# Altium footprint library ROBOCAM_1.PcbLib: 116 footprints (part 3 of 8)
Each footprint in its own frame and in the unit in brackets; x right, y up, seen from the top. Pads: shape width x height; smd on the part's side, far side on the other; paste and mask are expansions set on the pad; w line width, h text height; cw(c..) or ccw(c..) is an arc to the next point about the centre after c.
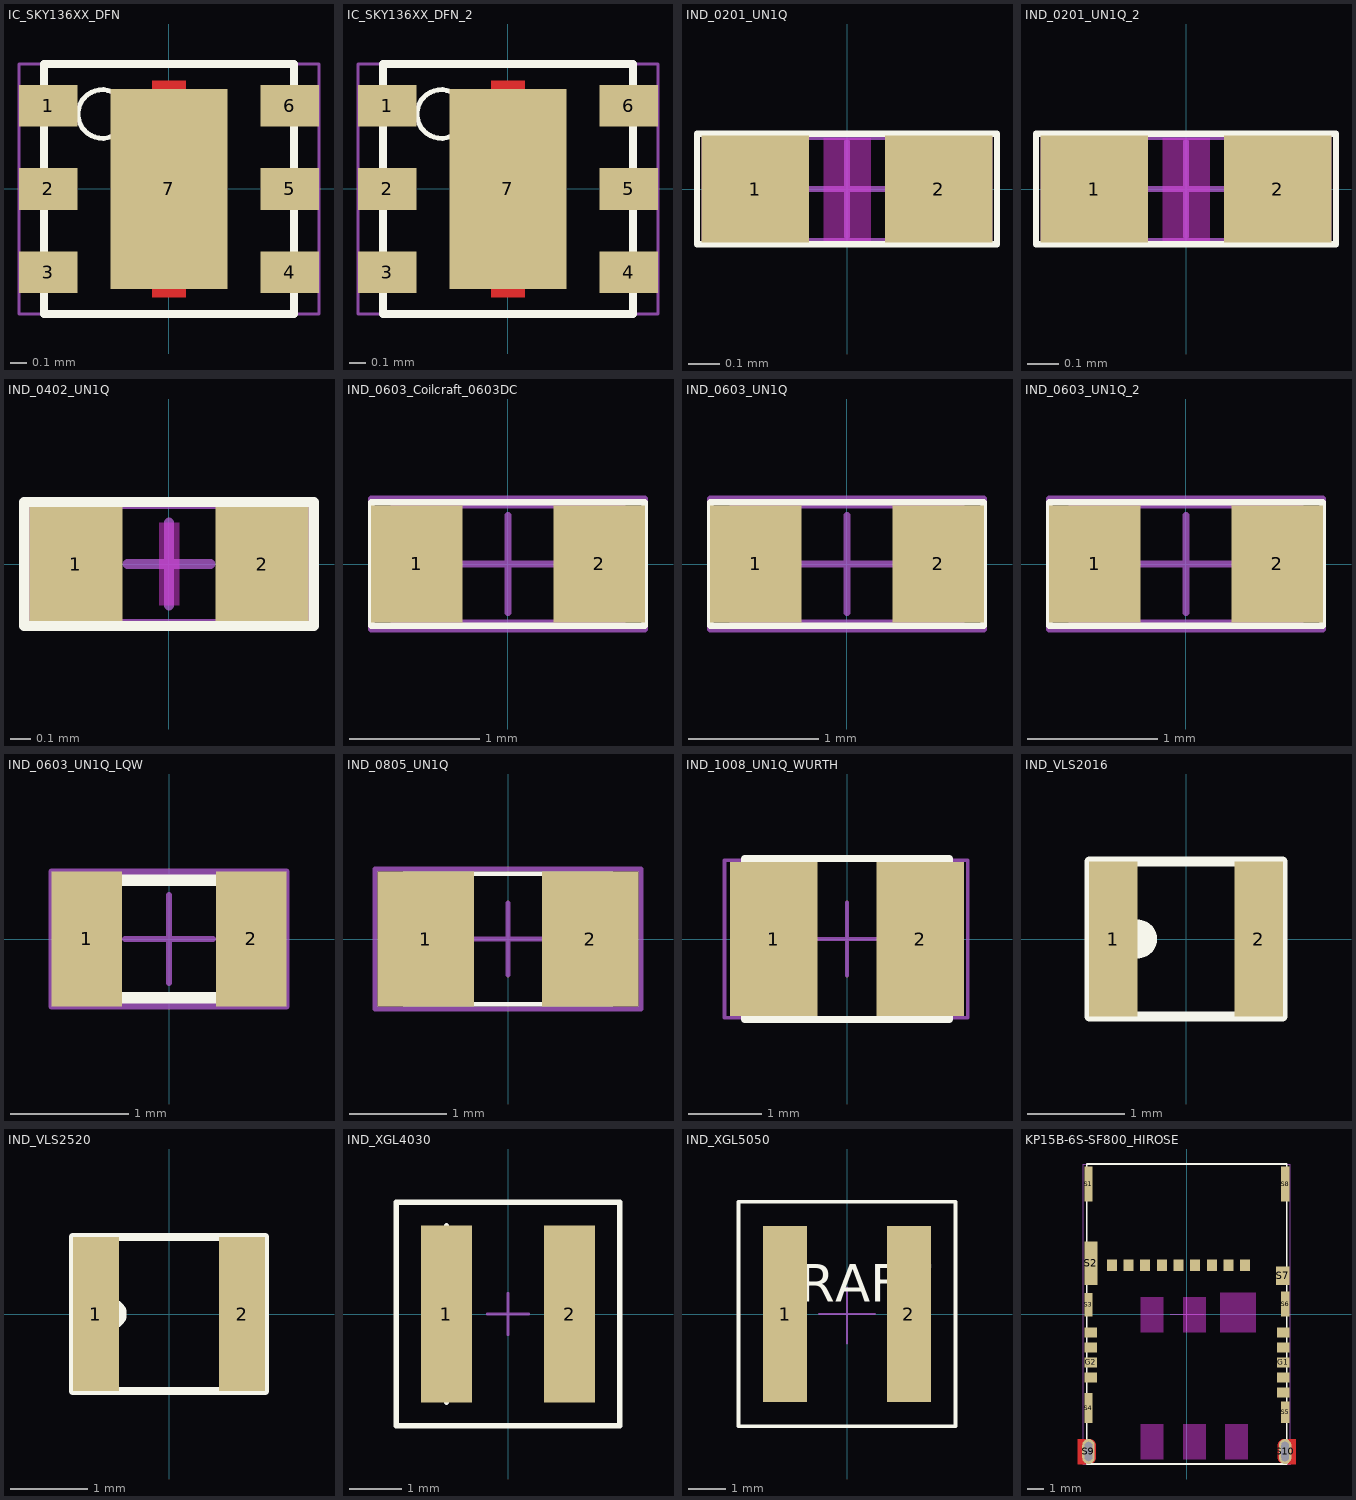
[diagram p2: the footprints below, top view; thin cyan lines are the x and y axes]

## IC_SKY136XX_DFN [mm] "Antenna SPDT Switch"
height 0.55
pads (7):
  rect 0.35x0.25 smd paste+0 mask+0.05: 1(-0.725,0.5) 2(-0.725,0) 3(-0.725,-0.5) 4(0.725,-0.5) 5(0.725,0) 6(0.725,0.5)
  rect 0.7x1.2 smd paste-0.05 mask+0.05: 7(0,0)
Top Layer:
  region: -0.1,0.65 0.1,0.65 0.1,0.6 -0.1,0.6
  region: -0.1,-0.6 0.1,-0.6 0.1,-0.65 -0.1,-0.65
Top Overlay:
  circle w0.03: c-0.4,0.45 r0.146
  lines w0.05: -0.75,-0.75 0.75,-0.75 0.75,0.75 -0.75,0.75 -0.75,-0.75
Top Solder:
  rectangle: -0.15,-0.7 0.15,0.7
Top Courtyard:
  lines w0.02: -0.9,-0.75 0.9,-0.75 0.9,0.75 -0.9,0.75 -0.9,-0.75
  lines w0.05: -0.3,0 0.3,0 ; 0,-0.3 0,0.3
Top Designator:
  text ".Designator" at -7.618,-0.508 h1.52
3D body: height 0.56, standoff 0.51, extent -0.549,0.3 -0.25,0.6
3D body: height 0.55, standoff 0, extent -0.775,-0.775 0.775,0.775

## IC_SKY136XX_DFN_2 [mm]
pads (7):
  rect 0.35x0.25 smd paste+0 mask+0.05: 1(-0.725,0.5) 2(-0.725,0) 3(-0.725,-0.5) 4(0.725,-0.5) 5(0.725,0) 6(0.725,0.5)
  rect 0.7x1.2 smd paste-0.05 mask+0.05: 7(0,0)
Top Layer:
  region: -0.1,0.65 0.1,0.65 0.1,0.6 -0.1,0.6
  region: -0.1,-0.6 0.1,-0.6 0.1,-0.65 -0.1,-0.65
Top Overlay:
  circle w0.03: c-0.4,0.45 r0.146
  lines w0.05: -0.75,-0.75 0.75,-0.75 0.75,0.75 -0.75,0.75 -0.75,-0.75
Top Solder:
  rectangle: -0.15,-0.7 0.15,0.7
Top Courtyard:
  lines w0.02: -0.9,-0.75 0.9,-0.75 0.9,0.75 -0.9,0.75 -0.9,-0.75
  lines w0.05: -0.3,0 0.3,0 ; 0,-0.3 0,0.3
Top Designator:
  text ".Designator" at 7.618,0.508 h1.52
3D body: height 0.56, standoff 0.51, extent -0.549,0.3 -0.25,0.6
3D body: height 0.55, standoff 0, extent -0.775,-0.775 0.775,0.775

## IND_0201_UN1Q [mm] "Chip Resistor, 0.6x0.3mm, IPC High Density"
height 0.3
pads (2):
  rect 0.34x0.34 smd mask+0.05: 1(-0.29,0) 2(0.29,0)
Top Layer keep-out:
  rectangle: -0.075,-0.169 0.075,0.161
Top Overlay:
  lines w0.02: -0.475,-0.175 -0.475,0.175 0.475,0.175 0.475,-0.175 -0.475,-0.175
Top Courtyard:
  lines w0.02: -0.15,0 0.15,0 ; 0,-0.15 0,0.15 ; -0.45,-0.165 -0.45,0.165 0.45,0.165 0.45,-0.165 -0.45,-0.165
Top Designator:
  text ".Designator" at -7.618,-0.508 h1.52
3D body "AIMC-0201-10NJ-T.STEP": height 0.3, standoff 0, extent -0.3,-0.15 0.3,0.15

## IND_0201_UN1Q_2 [mm]
pads (2):
  rect 0.34x0.34 smd mask+0.05: 1(-0.29,0) 2(0.29,0)
Top Layer keep-out:
  rectangle: -0.075,-0.169 0.075,0.161
Top Overlay:
  lines w0.02: -0.475,-0.175 0.475,-0.175 0.475,0.175 -0.475,0.175 -0.475,-0.175
Top Courtyard:
  lines w0.02: -0.15,0 0.15,0 ; 0,-0.15 0,0.15 ; -0.45,-0.165 0.45,-0.165 0.45,0.165 -0.45,0.165 -0.45,-0.165
Top Designator:
  text ".Designator" at -7.618,-0.508 h1.52
3D body "AIMC-0201-10NJ-T.STEP": height 0.3, standoff 0, extent -0.3,-0.15 0.3,0.15

## IND_0402_UN1Q [mm] "Chip Resistor, 1.0x0.5mm"
height 0.4
pads (2):
  rect 0.45x0.55 smd paste+0 mask+0.05: 1(-0.45,0) 2(0.45,0)
Top Layer keep-out:
  rectangle: -0.049,-0.2 0.051,0.2
Top Overlay:
  lines w0.05: -0.7,-0.3 -0.7,0.3 0.7,0.3 0.7,-0.3 -0.7,-0.3
Top Courtyard:
  lines w0.02: -0.675,-0.275 0.675,-0.275 0.675,0.275 -0.675,0.275 -0.675,-0.275
  lines w0.05: -0.2,0 0.2,0 ; 0,-0.2 0,0.2
Top Designator:
  text ".Designator" at 7.618,0.508 h1.52
3D body "AIMC-0402-3N9S-T.STEP": height 0.5, standoff 0, extent -0.5,-0.25 0.5,0.25

## IND_0603_Coilcraft_0603DC [mm] "Chip Inductor, 1.6x0.8mm"
height 0.9
pads (2):
  rect 0.7x0.9 smd mask+0.07: 1(-0.7,0) 2(0.7,0)
Top Overlay:
  lines w0.05: -1.05,-0.475 -1.05,0.475 1.05,0.475 1.05,-0.475 -1.05,-0.475
Top 3D Body:
  lines w0.1: -0.85,-0.475 -0.85,0.475 0.85,0.475 0.85,-0.475 -0.85,-0.475
Top Courtyard:
  lines w0.05: -0.375,0 0.375,0 ; 0,-0.375 0,0.375 ; -1.05,-0.5 -1.05,0.5 1.05,0.5 1.05,-0.5 -1.05,-0.5
Top Designator:
  text ".Designator" at -7.618,-0.508 h1.52
3D body "Coilcraft-0603DC.step": height 0.89, standoff 0, extent -0.81,-0.365 0.81,0.365

## IND_0603_UN1Q [mm] "Chip Inductor, 1.6x0.8mm"
height 0.8
pads (2):
  rect 0.7x0.9 smd mask+0.07: 1(-0.7,0) 2(0.7,0)
Top Overlay:
  lines w0.05: -1.05,-0.475 1.05,-0.475 1.05,0.475 -1.05,0.475 -1.05,-0.475
Top 3D Body:
  lines w0.1: -0.85,-0.475 0.85,-0.475 0.85,0.475 -0.85,0.475 -0.85,-0.475
Top Courtyard:
  lines w0.05: -0.375,0 0.375,0 ; 0,-0.375 0,0.375 ; -1.05,-0.5 1.05,-0.5 1.05,0.5 -1.05,0.5 -1.05,-0.5
Top Designator:
  text ".Designator" at 7.618,0.508 h1.52
3D body: height 0.6, standoff 0, extent -0.849,-0.474 -0.58,0.475
3D body: height 0.8, standoff 0, extent -1.05,-0.475 1.05,0.475
3D body: height 0.6, standoff 0, extent 0.581,-0.474 0.85,0.475

## IND_0603_UN1Q_2 [mm]
pads (2):
  rect 0.7x0.9 smd mask+0.07: 1(-0.7,0) 2(0.7,0)
Top Overlay:
  lines w0.05: -1.05,-0.475 1.05,-0.475 1.05,0.475 -1.05,0.475 -1.05,-0.475
Top 3D Body:
  lines w0.1: -0.85,-0.475 0.85,-0.475 0.85,0.475 -0.85,0.475 -0.85,-0.475
Top Courtyard:
  lines w0.05: -0.375,0 0.375,0 ; 0,-0.375 0,0.375 ; -1.05,-0.5 1.05,-0.5 1.05,0.5 -1.05,0.5 -1.05,-0.5
Top Designator:
  text ".Designator" at -7.618,-0.508 h1.52
3D body: height 0.6, standoff 0, extent -0.849,-0.474 -0.58,0.475
3D body: height 0.8, standoff 0, extent -1.05,-0.475 1.05,0.475
3D body: height 0.6, standoff 0, extent 0.581,-0.474 0.85,0.475

## IND_0603_UN1Q_LQW [mm] "Chip Inductor, 1.65x0.99mm (1.75x1.09 max)"
height 1
pads (2):
  rect 0.6x1.15 smd mask+0.07: 1(-0.7,0) 2(0.7,0)
Top Overlay:
  lines w0.1: -0.825,-0.5 -0.825,0.5 0.825,0.5 0.825,-0.5 -0.825,-0.5
Top 3D Body:
  lines w0.1: -0.825,-0.5 -0.825,0.5 0.825,0.5 0.825,-0.5 -0.825,-0.5
Top Courtyard:
  lines w0.05: -0.375,0 0.375,0 ; 0,-0.375 0,0.375 ; -1,-0.575 -1,0.575 1,0.575 1,-0.575 -1,-0.575
Top Designator:
  text ".Designator" at 7.618,0.508 h1.52
3D body: height 0.6, standoff 0, extent 0.581,-0.474 0.85,0.475
3D body: height 1, standoff 0, extent -0.825,-0.5 0.825,0.5
3D body: height 0.6, standoff 0, extent -0.849,-0.474 -0.58,0.475

## IND_0805_UN1Q [mm] "Chip Inductor, 2.10x1.35mm, IPC High Density"
height 1
pads (2):
  rect 1x1.4 smd paste+0 mask+0.05: 1(-0.85,0) 2(0.85,0)
Top Overlay:
  lines w0.05: -1.075,-0.675 -1.075,0.675 1.075,0.675 1.075,-0.675 -1.075,-0.675
Top Courtyard:
  lines w0.05: -0.375,0 0.375,0 ; 0,-0.375 0,0.375 ; -1.375,-0.725 -1.375,0.725 1.375,0.725 1.375,-0.725 -1.375,-0.725
Top Designator:
  text ".Designator" at 7.618,0.508 h1.52
3D body "LQM21PN1R0NGRD.STEP": height 1.01, standoff 0.01, extent -1,-0.625 1,0.625

## IND_1008_UN1Q_WURTH [mm] "Chip Inductor, 1008"
height 1.2
pads (2):
  rect 1.2x2.1 smd mask+0.05: 1(-1,0) 2(1,0)
Top Overlay:
  lines w0.1: -1.4,-1.1 -1.4,1.1 1.4,1.1 1.4,-1.1 -1.4,-1.1
Top Courtyard:
  lines w0.05: -0.5,0 0.5,0 ; 0,-0.5 0,0.5 ; -1.675,-1.075 1.65,-1.075 1.65,1.075 -1.675,1.075 -1.675,-1.075
Top Designator:
  text ".Designator" at -7.63,-0.508 h1.52
3D body "WE-LQS_252012 (rev1).stp": height 1.21, standoff 0.01, extent -1.25,-1 1.25,1

## IND_VLS2016 [mm]
height 1.2
pads (2):
  rect 0.5x1.6 smd paste+0 mask+0.05: 1(-0.75,0) 2(0.75,0)
Top Overlay:
  circle w0.2: c-0.5,0 r0.1
  lines w0.1: -1,-0.8 1,-0.8 1,0.8 -1,0.8 -1,-0.8
Top Courtyard:
  lines w0.05: -1,-0.8 -1,0.8 1,0.8 1,-0.8 -1,-0.8
Top Designator:
  text ".Designator" at 7.618,0.508 h1.52
3D body "step_temp.STEP": height 1.2, standoff 0, extent -1,-0.8 1,0.8

## IND_VLS2520 [mm]
height 1.2
pads (2):
  rect 0.6x2 smd paste+0 mask+0.05: 1(-0.95,0) 2(0.95,0)
Top Overlay:
  circle w0.2: c-0.75,0 r0.1
  lines w0.1: -1.25,-1 -1.25,1 1.25,1 1.25,-1 -1.25,-1
Top Courtyard:
  lines w0.05: -1.25,-1 1.25,-1 1.25,1 -1.25,1 -1.25,-1
Top Designator:
  text ".Designator" at -7.618,-0.508 h1.52
3D body "step_temp.STEP": height 1.2, standoff 0, extent -1.25,-1 1.25,1

## IND_XGL4030 [mm]
height 3.1
pads (2):
  rect 0.98x3.4 smd paste+0 mask+0.05: 1(-1.185,0) 2(1.185,0)
Top Overlay:
  lines w0.1: -1.185,-1.7 -1.185,1.7 ; -2.15,-2.15 2.15,-2.15 2.15,2.15 -2.15,2.15 -2.15,-2.15
Top Courtyard:
  lines w0.05: -0.4,0 0.4,0 ; 0,-0.4 0,0.4 ; -2.15,-2.15 2.15,-2.15 2.15,2.15 -2.15,2.15 -2.15,-2.15
Top Designator:
  text ".Designator" at -4.719,-0.508 h1.52
3D body "Coilcraft-XGL4030.step": height 3, standoff -0.1, extent -2.15,-2.15 2.15,2.15
3D body: height 2.11, standoff 2, extent -1.075,-1.5 -0.725,1.5

## IND_XGL5050 [mm] "XGL5050, shielded, 5.3 x 5.5 mm"
height 5.1
pads (2):
  rect 1.18x4.7 smd paste+0 mask+0.05: 1(-1.655,0) 2(1.655,0)
Top Overlay:
  circle w0.1: c-1.65,1.8 r0.5
  lines w0.1: -2.9,-3 2.9,-3 2.9,3 -2.9,3 -2.9,-3
  text "DRAFT" at -2.325,0.325 h1
Top Courtyard:
  lines w0.05: -0.75,0 0.75,0 ; 0.003,-0.791 0.003,0.709 ; -2.9,-3 -2.9,3 2.9,3 2.9,-3 -2.9,-3
Top Designator:
  text ".Designator" at -7.618,-0.508 h1.52
3D body "Coilcraft-XGL5050.step": height 4.9, standoff -0.2, extent -2.74,-2.84 2.74,2.84

## KP15B-6S-SF800_HIROSE [mm] "micro SD, nano SIM Combo Card Socket"
height 2.1
pads (28):
  rect 0.6x0.7 smd paste+0 mask+0.05: C1_1(3.5,2.93) C2_1(2.5,2.93) C3_1(1.5,2.93) C4_1(0.5,2.93) C5_1(-0.5,2.93) C6_1(-1.5,2.93) C7_1(-3.5,2.93) C8_1(-4.5,2.93) D_T_1(-2.5,2.93)
  rect 0.75x0.6 smd paste+0 mask+0.05: C1_2(5.775,-4.7) C2_2(5.775,-3.8) C3_2(-5.775,-3.8) C5_2(5.775,-2) C6_2(-5.775,-2) C7_2(-5.775,-1.1) D_T_2(5.775,-1.1) G1(5.775,-2.9) G2(-5.775,-2.9)
  rect 0.5x2.1 smd paste+0 mask+0.05: S1(-5.9,7.8) S8(5.9,7.8)
  rect 0.8x2.6 smd paste+0 mask+0.05: S2(-5.75,3.05)
  rect 0.5x1.4 smd paste+0 mask+0.05: S3(-5.9,0.55)
  rect 0.5x1.8 smd paste+0 mask+0.05: S4(-5.9,-5.65)
  rect 0.5x1.3 smd paste+0 mask+0.05: S5(5.9,-5.9)
  rect 0.5x1.5 smd paste+0 mask+0.05: S6(5.9,0.6)
  rect 0.8x1.1 smd paste+0 mask+0.05: S7(5.75,2.3)
  oval 0.75x1.5 hole 0.45 slot 1.15 at 90 deg paste-2539.97 mask+0.07: S9(-5.9,-8.25) S10(5.9,-8.25)
Top Layer:
  region: -5.853,-7.501 -5.831,-7.502 -5.809,-7.505 -5.787,-7.509 -5.765,-7.514 -5.744,-7.521 -5.723,-7.528 -5.702,-7.537 -5.682,-7.546 -5.663,-7.557 -5.644,-7.569 -5.625,-7.581 -5.608,-7.595 -5.591,-7.609 -5.574,-7.624 -5.559,-7.641 -5.545,-7.658 -5.531,-7.675 -5.519,-7.694 -5.507,-7.712 -5.496,-7.732 -5.487,-7.752 -5.478,-7.773 -5.471,-7.794 -5.464,-7.815 -5.459,-7.837 -5.455,-7.859 -5.452,-7.881 -5.451,-7.903 -5.451,-8.597 -5.452,-8.619 -5.455,-8.641 -5.459,-8.663 -5.464,-8.685 -5.471,-8.706 -5.478,-8.727 -5.487,-8.748 -5.496,-8.768 -5.507,-8.788 -5.519,-8.806 -5.531,-8.825 -5.545,-8.842 -5.559,-8.859 -5.574,-8.876 -5.591,-8.891 -5.608,-8.905 -5.625,-8.919 -5.644,-8.931 -5.663,-8.943 -5.682,-8.954 -5.702,-8.963 -5.723,-8.972 -5.744,-8.979 -5.765,-8.986 -5.787,-8.991 -5.809,-8.995 -5.831,-8.998 -5.853,-8.999 -5.875,-9 -6.55,-9 -6.55,-7.5 -5.875,-7.5
  region: 6.55,-9 5.875,-9 5.853,-8.999 5.831,-8.998 5.809,-8.995 5.787,-8.991 5.765,-8.986 5.744,-8.979 5.723,-8.972 5.702,-8.963 5.682,-8.954 5.663,-8.943 5.644,-8.931 5.625,-8.919 5.608,-8.905 5.591,-8.891 5.574,-8.876 5.559,-8.859 5.545,-8.842 5.531,-8.825 5.519,-8.806 5.507,-8.788 5.496,-8.768 5.487,-8.748 5.478,-8.727 5.471,-8.706 5.464,-8.685 5.459,-8.663 5.455,-8.641 5.452,-8.619 5.451,-8.597 5.451,-7.903 5.452,-7.881 5.455,-7.859 5.459,-7.837 5.464,-7.815 5.471,-7.794 5.478,-7.773 5.487,-7.752 5.496,-7.732 5.507,-7.712 5.519,-7.694 5.531,-7.675 5.545,-7.658 5.559,-7.641 5.574,-7.624 5.591,-7.609 5.608,-7.595 5.625,-7.581 5.644,-7.569 5.663,-7.557 5.682,-7.546 5.702,-7.537 5.723,-7.528 5.744,-7.521 5.765,-7.514 5.787,-7.509 5.809,-7.505 5.831,-7.502 5.853,-7.501 5.875,-7.5 6.55,-7.5
Top Layer keep-out:
  region: 3.665,-8.7 2.315,-8.7 2.315,-6.63 3.665,-6.63
  region: 1.125,-8.7 -0.225,-8.7 -0.225,-6.63 1.125,-6.63
  region: -1.415,-8.7 -2.765,-8.7 -2.765,-6.63 -1.415,-6.63
  region: -1.415,-1.08 -2.765,-1.08 -2.765,0.99 -1.415,0.99
  region: 1.125,-1.08 -0.225,-1.08 -0.225,0.99 1.125,0.99
  region: 4.14,-1.08 2,-1.08 2,1.29 4.14,1.29
  region: 3.665,-8.7 2.315,-8.7 2.315,-6.63 3.665,-6.63
  region: 1.125,-8.7 -0.225,-8.7 -0.225,-6.63 1.125,-6.63
  region: -1.415,-8.7 -2.765,-8.7 -2.765,-6.63 -1.415,-6.63
  region: 4.14,-1.08 2,-1.08 2,1.29 4.14,1.29
  region: 1.125,-1.08 -0.225,-1.08 -0.225,0.99 1.125,0.99
  region: -1.415,-1.08 -2.765,-1.08 -2.765,0.99 -1.415,0.99
Top Overlay:
  lines w0.1: -6,-9 6,-9 6,9 -6,9 -6,-9
Top Paste:
  lines w0.3: -5.525,-8.85 -5.525,-7.675 ; 5.525,-8.825 5.525,-7.65
  lines w0.5: -6.375,-8.825 -6.375,-7.675 ; 6.375,-8.825 6.375,-7.675
Top Courtyard:
  lines w0.05: -1,0 1,0 ; 0,-1 0,1 ; -6.2,-9 6.2,-9 6.2,9 -6.2,9 -6.2,-9
Top Designator:
  text ".Designator" at 7.618,0.495 h1.52
3D body "KP15B-6S-SF_4800333000_3D_stp.stp": height 1.99, standoff -0.41, extent -5.945,-8.94 5.955,8.96